# Altium footprint library SOD-80.PcbLib: 1 footprints
Each footprint in its own frame and in the unit in brackets; x right, y up, seen from the top. Pads: shape width x height; smd on the part's side, far side on the other; paste and mask are expansions set on the pad; w line width, h text height; cw(c..) or ccw(c..) is an arc to the next point about the centre after c.
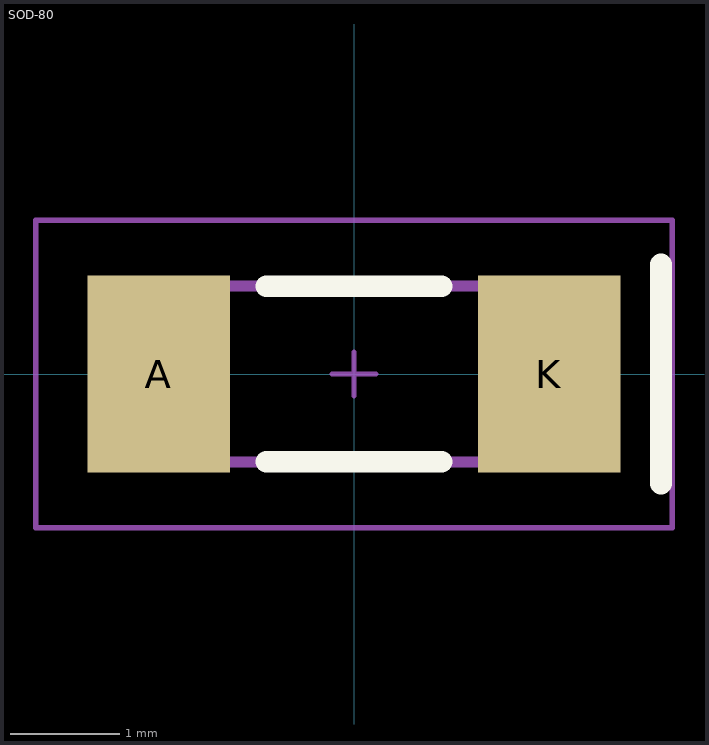
[diagram p0: the footprint, top view; thin cyan lines are the x and y axes]

## SOD-80 [mm]
height 1.5
pads (2):
  rect 1.3x1.8 smd: A(-1.778,0) K(1.778,0)
Top Overlay:
  lines w0.2: -0.8,-0.8 0.8,-0.8 ; -0.8,0.8 0.8,0.8 ; 2.8,-1 2.8,1
Mechanical 13:
  lines w0.1: -1.6,-0.8 -1.6,0.8 ; 1.6,-0.8 1.6,0.8 ; -1.8,-0.8 -1.8,0.8 1.8,0.8 1.8,-0.8 -1.8,-0.8
Mechanical 15:
  lines w0.05: -0.2,0 0.2,0 ; 0,-0.2 0,0.2 ; -2.9,-1.4 -2.9,1.4 2.9,1.4 2.9,-1.4 -2.9,-1.4
3D body: height 1.5, standoff 0, extent 1.601,-0.799 1.799,0.799
3D body: height 1.5, standoff 0, extent -1.799,-0.799 -1.601,0.799
3D body: height 1.6, standoff 0, extent -1.6,-0.794 1.6,0.8